# Altium footprint library PCB - LEADLESS - DFN - AO AONS66920 DFN5x6_8L_EP1_P.PcbLib: 1 footprints
Each footprint in its own frame and in the unit in brackets; x right, y up, seen from the top. Pads: shape width x height; smd on the part's side, far side on the other; paste and mask are expansions set on the pad; w line width, h text height; cw(c..) or ccw(c..) is an arc to the next point about the centre after c.
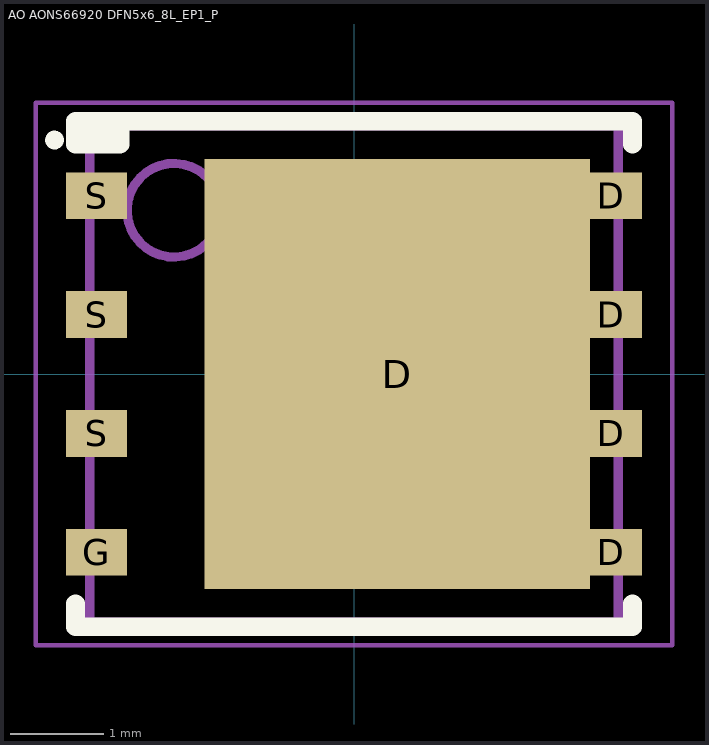
[diagram p0: the footprint, top view; thin cyan lines are the x and y axes]

## AO AONS66920 DFN5x6_8L_EP1_P [mm] "DFN, 8-Leads, Body 5.20x5.55mm, Pitch 1.27mm, Thermal Pad 0.00x0.00mm, IPC Medium Density"
height 1
pads (9):
  rect 4.12x4.6 smd: D(0.46,0)
  rect 0.65x0.5 smd: D(2.75,-1.905) D(2.75,-0.635) D(2.75,0.635) D(2.75,1.905) G(-2.75,-1.905) S(-2.75,-0.635) S(-2.75,0.635) S(-2.75,1.905)
Top Overlay:
  circle w0.1: c-3.2,2.5 r0.05
  rectangle: -2.975,2.455 -2.5,2.7
  lines w0.2: -2.975,-2.455 -2.975,-2.7 2.975,-2.7 2.975,-2.455 ; -2.5,2.7 -2.5,2.455 -2.975,2.455 -2.975,2.7 2.975,2.7 2.975,2.455
Mechanical 13:
  circle w0.1: c-1.925,1.75 r0.5
  lines w0.1: -2.825,-2.65 2.825,-2.65 2.825,2.65 -2.825,2.65 -2.825,-2.65
Mechanical 15:
  lines w0.05: -3.4,-2.9 3.4,-2.9 3.4,2.9 -3.4,2.9 -3.4,-2.9
  lines w0.1: -0.5,0 0.5,0 ; 0,-0.5 0,0.5
3D body "AO DFN5x6_8L_EP1_P.step": height 1, standoff 0, extent -3.075,-2.75 3.075,2.75